# Altium integrated library ixys.IntLib: 2 symbols
Pins are listed as number, name and electrical type; pins without a type are passive.

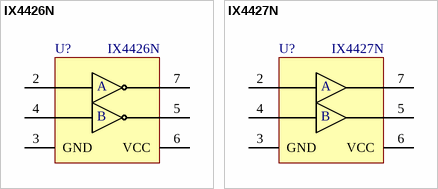
[diagram p0: symbols IX4426N to IX4427N]

## IX4426N
designator U?
1.5-Ampere Dual Low-Side / Ultrafast MOSFET Drivers
footprint SOP-8 (SOP, 8-Leads, Body 4.90x3.90mm, Pitch 1.27mm, IPC High Density)
pins: 2 INA, 3 GND, 4 INB, 5 OUTB, 6 VCC, 7 OUTA
text: A; B

## IX4427N
designator U?
1.5-Ampere Dual Low-Side / Ultrafast MOSFET Drivers
footprint SOP-8 (SOP, 8-Leads, Body 4.90x3.90mm, Pitch 1.27mm, IPC High Density)
pins: 2 INA, 3 GND, 4 INB, 5 OUTB, 6 VCC, 7 OUTA
text: A; B